# EAGLE library part X04X2 (library connectors)
Connector 2x4 pins
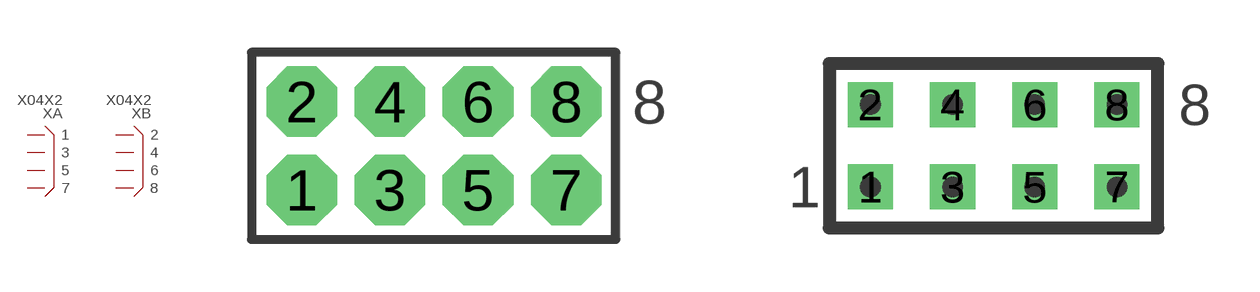
[diagram p53: symbol with the pads of X08N-DIL; footprints X08N-DIL, X08R-DIL]

Designator prefix X; gates A=X08A B=X08B

## X04X2D  [X08N-DIL]
1  A:1
2  B:2
3  A:3
4  B:4
5  A:5
6  B:6
7  A:7
8  B:8

## X04X2DR  [X08R-DIL]
Pads as for X08N-DIL

## X04X2I  [X08N-IDC]
Pads as for X08N-DIL

## X04X2  [X08N-IDC]
Pads as for X08N-DIL

## X04X2IR  [X08R-IDC]
Pads as for X08N-DIL

## Footprint X08N-DIL (pad centres in mm)
Connector 8 pins, DIL
drill 0.889 pad 2.032 octagon: 1 -3.81,-1.27; 2 -3.81,1.27; 3 -1.27,-1.27; 4 -1.27,1.27; 5 1.27,-1.27; 6 1.27,1.27; 7 3.81,-1.27; 8 3.81,1.27

## Footprint X08R-DIL (pad centres in mm)
Connector 8 pins, DIL, reduced pads
drill 0.889 pad 1.397 square: 1 -3.81,-1.27; 2 -3.81,1.27; 3 -1.27,-1.27; 4 -1.27,1.27; 5 1.27,-1.27; 6 1.27,1.27; 7 3.81,-1.27; 8 3.81,1.27

## Footprint X08N-IDC (pad centres in mm)
Connector 8 pins, IDC
drill 0.889 pad 2.032 octagon: 1 -3.81,-1.27; 2 -3.81,1.27; 3 -1.27,-1.27; 4 -1.27,1.27; 5 1.27,-1.27; 6 1.27,1.27; 7 3.81,-1.27; 8 3.81,1.27

## Footprint X08R-IDC (pad centres in mm)
Connector 8 pins, IDC, reduced pads
drill 0.889 pad 1.397 square: 1 -3.81,-1.27; 2 -3.81,1.27; 3 -1.27,-1.27; 4 -1.27,1.27; 5 1.27,-1.27; 6 1.27,1.27; 7 3.81,-1.27; 8 3.81,1.27